# Altium footprint library 429A-1-V1.0.1.PcbLib: 19 footprints (part 1 of 2)
Each footprint in its own frame and in the unit in brackets; x right, y up, seen from the top. Pads: shape width x height; smd on the part's side, far side on the other; paste and mask are expansions set on the pad; w line width, h text height; cw(c..) or ccw(c..) is an arc to the next point about the centre after c.
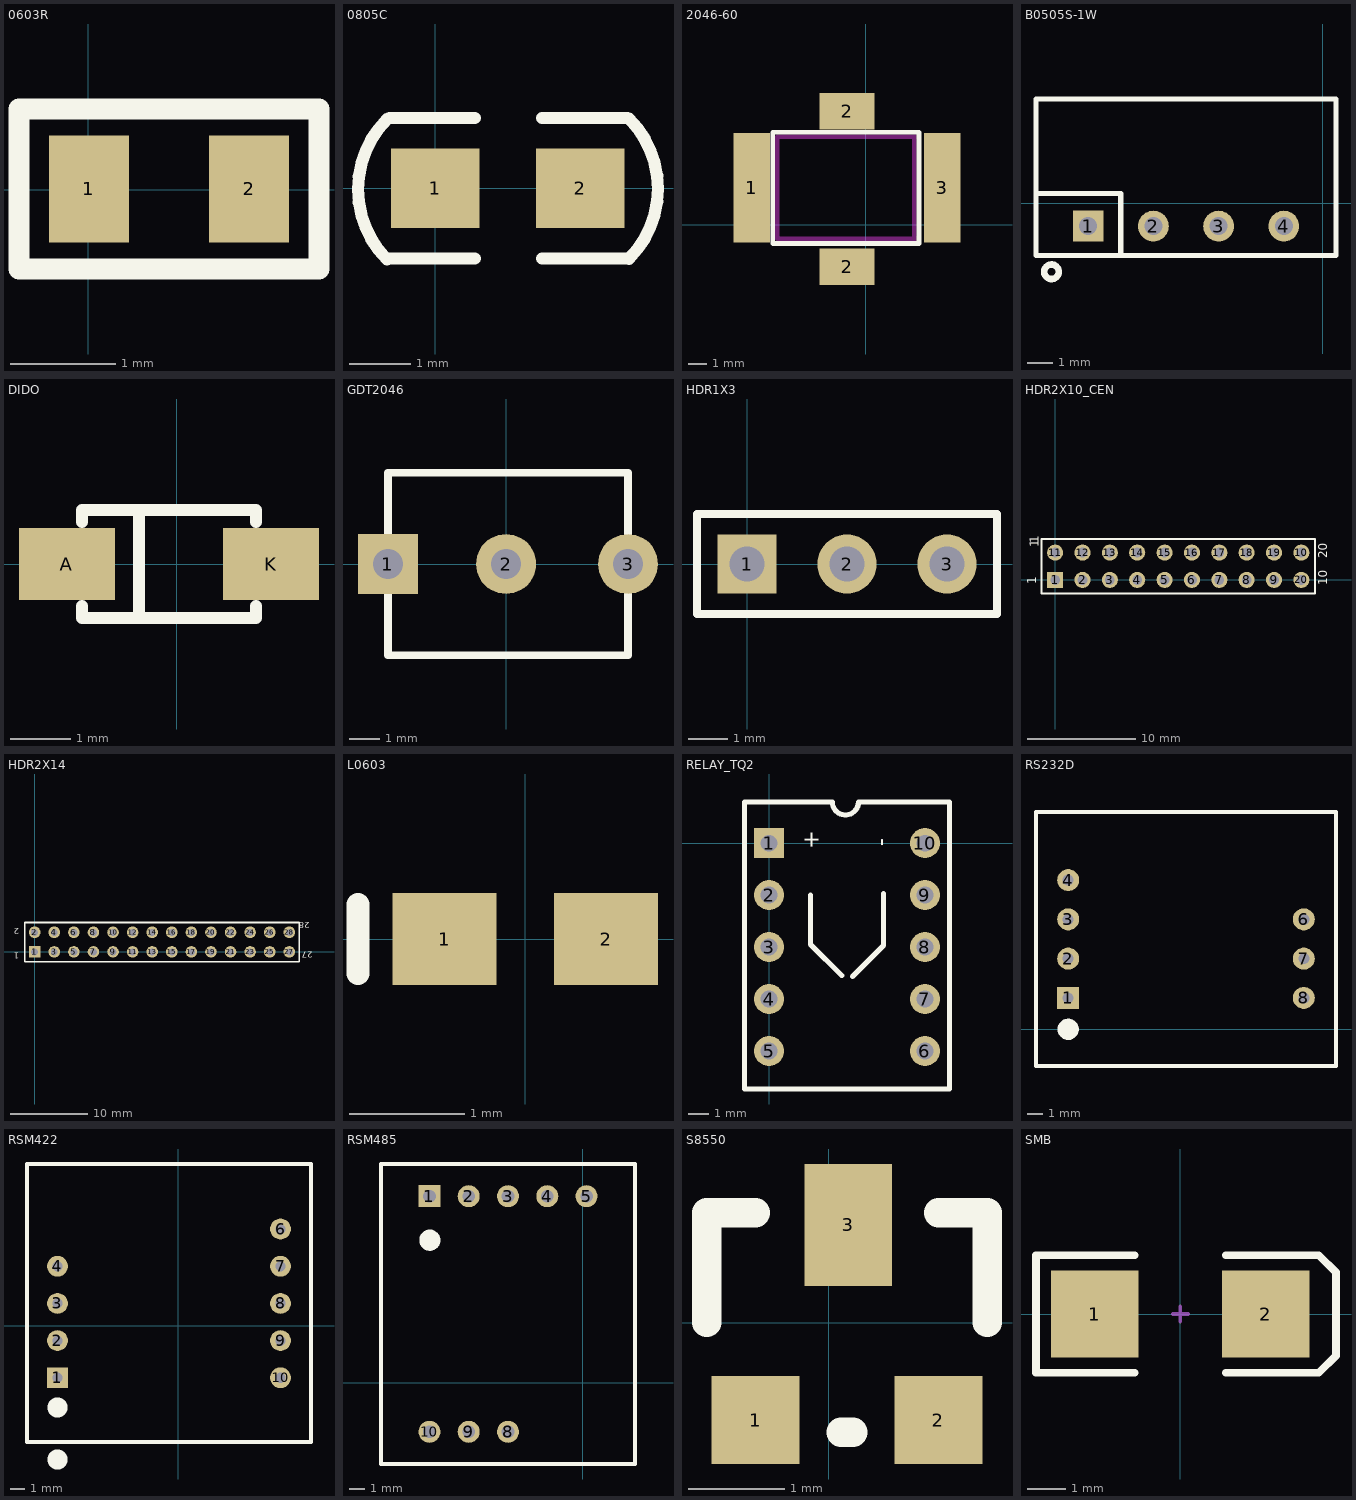
[diagram p0: the footprints below, top view; thin cyan lines are the x and y axes]

## 0603R [mil]
height 755.91
pads (2):
  rect 30x40 smd: 1(0.19,0.25) 2(60.19,0.25)
Top Overlay:
  lines w7.87: 86.33,-29.79 86.33,30.25 -25.95,30.25 -25.95,-29.75 86.33,-29.75

## 0805C [mm]
pads (2):
  rect 1.45x1.3 smd: 1(0,0) 2(2.379,0)
Top Overlay:
  lines w0.2: -0.787,-1.168 cw(c0.363,-0.018) -0.787,1.132 ; -0.75,-1.15 0.65,-1.15 ; -0.75,1.15 0.65,1.15 ; 1.75,-1.15 3.15,-1.15 ; 1.75,1.15 3.15,1.15 ; 3.175,-1.157 ccw(c2.025,-0.007) 3.175,1.143

## 2046-60 [mil] "BOURNS  2046 Series Heavy-Duty 3-Electrode Gas Discharge Tube"
height 236.22
pads (4):
  rect 78.74x236.22 smd: 1(-245,80) 3(165,80)
  rect 118.11x78.74 smd: 2(-40,-90) 2(-40,245)
Top Overlay:
  lines w10: -200,-40 -200,200 115,200 115,-40 -200,-40
Keep-Out Layer:
  lines w10: 105,-30 105,190 ; 110,-30 -190,-30 -190,190 110,190

## B0505S-1W [mm] "MORSUN"
pads (4):
  rect 1.2x1.2 hole 0.7: 1(-9.144,-0.889)
  round 1.2 hole 0.7: 2(-6.604,-0.889) 3(-4.064,-0.889) 4(-1.524,-0.889)
Top Overlay:
  circle w0.254: c-10.571,-2.667 r0.284
  lines w0.2: -11.176,0.381 -7.874,0.381 -7.874,-2.032 ; -11.176,-2.032 -11.176,4.064 0.508,4.064 0.508,-2.032 -11.176,-2.032

## DIDO [mm]
pads (2):
  rect 1.6x1.2 smd: A(-1.827,0) K(1.573,0)
Top Overlay:
  lines w0.2: -1.577,-0.7 -1.577,-0.9 1.323,-0.9 1.323,-0.7 ; -1.577,0.7 -1.577,0.9 1.323,0.9 1.323,0.7 ; -0.627,-0.9 -0.627,0.9

## GDT2046 [mm]
pads (3):
  rect 2x2 hole 1: 1(-3.937,0)
  round 2 hole 1: 2(0,0) 3(4.064,0)
Top Overlay:
  lines w0.254: -3.937,-3.048 -3.937,3.048 4.064,3.048 4.064,-3.048 -3.937,-3.048

## HDR1X3 [mm] "Connector; Header; 3 Position"
height 1.2
pads (3):
  rect 1.5x1.5 hole 0.9: 1(0,0)
  round 1.5 hole 0.9: 2(2.54,0) 3(5.08,0)
Top Overlay:
  lines w0.2: -1.27,-1.27 -1.27,1.27 6.35,1.27 6.35,-1.27 -1.27,-1.27

## HDR2X10_CEN [mm] "Connector; Header; 10x2 Position"
pads (20):
  rect 1.5x1.5 hole 0.9: 1(0,0)
  round 1.5 hole 0.9: 2(2.54,0) 3(5.08,0) 4(7.62,0) 5(10.16,0) 6(12.7,0) 7(15.24,0) 8(17.78,0) 9(20.32,0) 10(22.86,2.54) 11(0,2.54) 12(2.54,2.54) 13(5.08,2.54) 14(7.62,2.54) 15(10.16,2.54) 16(12.7,2.54) 17(15.24,2.54) 18(17.78,2.54) 19(20.32,2.54) 20(22.86,0)
Top Overlay:
  lines w0.2: -1.27,-1.27 -1.27,3.81 24.13,3.81 24.13,-1.27 -1.27,-1.27
  text "1" at -1.524,3.429 h0.8
  text "20" at 25.273,2.032 h0.8
  text "10" at 25.273,-0.508 h0.8
  text "1" at -1.778,-0.381 h0.8
  text "1" at -1.524,3.048 h0.8

## HDR2X14 [mm] "Connector; Header; 14x2 Position"
height 6
pads (28):
  rect 1.5x1.5 hole 0.9: 1(0,0)
  round 1.5 hole 0.9: 2(0,2.54) 3(2.54,0) 4(2.54,2.54) 5(5.08,0) 6(5.08,2.54) 7(7.62,0) 8(7.62,2.54) 9(10.16,0) 10(10.16,2.54) 11(12.7,0) 12(12.7,2.54) 13(15.24,0) 14(15.24,2.54) 15(17.78,0) 16(17.78,2.54) 17(20.32,0) 18(20.32,2.54) 19(22.86,0) 20(22.86,2.54) 21(25.4,0) 22(25.4,2.54) 23(27.94,0) 24(27.94,2.54) 25(30.48,0) 26(30.48,2.54) 27(33.02,0) 28(33.02,2.54)
Top Overlay:
  lines w0.2: -1.27,-1.27 34.29,-1.27 34.29,3.81 -1.27,3.81 -1.27,-1.27
  text "28" at 35.687,3.81 h0.8
  text "27" at 36.068,0 h0.8
  text "1" at -2.032,-0.127 h0.8
  text "2" at -2.032,3.048 h0.8

## L0603 [mm] "Chip Inductor; Body 1.6 x 0.8 mm (LxW typ)"
height 0.55
pads (2):
  rect 0.9x0.8 smd: 1(-0.7,0) 2(0.7,0)
Top Overlay:
  lines w0.2: -1.45,-0.3 -1.45,0.3

## RELAY_TQ2 [mm]
height 6
pads (10):
  rect 1.47x1.47 hole 0.813: 1(0,0)
  round 1.47 hole 0.813: 2(0,-2.54) 3(0,-5.08) 4(0,-7.62) 5(0,-10.16) 6(7.62,-10.16) 7(7.62,-7.62) 8(7.62,-5.08) 9(7.62,-2.54) 10(7.62,0)
Top Overlay:
  lines w0.254: 2.032,-2.536 2.032,-4.952 3.556,-6.476 ; 4.08,-6.512 5.588,-5.004 5.588,-2.468 ; -1.194,-12.014 8.814,-12.014 8.814,2.007 6.274,2.007 4.369,2.007 cw(c3.734,2.007) 3.099,2.007 1.194,2.007 -1.194,2.007 -1.194,-12.014
  text "+" at 2.438,-0.305 h0.8
  text "-" at 5.207,0.229 h0.8

## RS232D [mil]
height 236.22
pads (7):
  rect 56x56 hole 28: 1(-735,80)
  round 56 hole 28: 2(-735,180) 3(-735,280) 4(-735,380) 7(-135,180) 8(-135,80)
  round 55.98 hole 27.99: 6(-135,280)
Top Overlay:
  circle w30: c-735,0 r12
  lines w10: -817,-93 -53,-93 -53,553 -817,553 -817,-93

## RSM422 [mil]
height 236.22
pads (9):
  rect 56x56 hole 28: 1(-325,-140)
  round 56 hole 28: 2(-325,-40) 3(-325,60) 7(275,160) 8(275,60) 9(275,-40) 10(275,-140)
  round 55.98 hole 27.99: 4(-325,160) 6(275,260)
Top Overlay:
  circle w30: c-325,-360 r12
  circle w30: c-325,-220 r12
  lines w10: -407,-313 357,-313 357,435 -407,435 -407,-313

## RSM485 [mil]
height 236.22
pads (8):
  rect 55.98x55.98 hole 32.01: 1(-390,475)
  round 56 hole 32: 2(-290,475) 4(-90,475) 5(10,475) 8(-190,-125) 9(-290,-125)
  round 55.98 hole 32.01: 3(-190,475) 10(-390,-125)
Top Overlay:
  circle w30: c-389,363 r12
  lines w10: -513,-207 133,-207 133,557 -513,557 -513,-207

## S8550 [mil]
height 47.24
pads (3):
  rect 36x36 smd: 1(-30,-40) 2(45,-40)
  rect 36x50 smd: 3(8,40)
Top Overlay:
  lines w12: -50,0 -50,45 -30,45 ; 5,-45 10,-45 ; 45,45 65,45 65,0

## SMB [mm] "DO-214-AA/SMB; 2 C-Bend Leads; Body 5.3 x 3.6 mm, inc. leads (LxW)"
height 2.54
pads (2):
  rect 2.3x2.3 smd: 1(-2.25,0) 2(2.25,0)
Top Overlay:
  lines w0.2: -1.2,-1.55 -3.8,-1.55 -3.8,1.55 -1.2,1.55 ; 1.2,-1.55 3.65,-1.55 4.1,-1.1 4.1,1.1 3.65,1.55 1.2,1.55
Mechanical 1:
  lines w0.1: -0.2,0 0.2,0 ; 0,-0.2 0,0.2